# EAGLE library part ADS7947SRTER_ADS7947SRTER (library spectrometer_mother_board_v1)
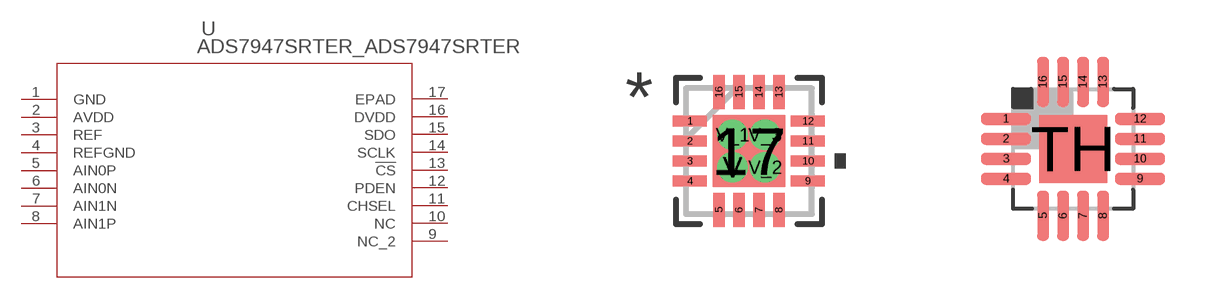
[diagram p1: symbol with the pads of ADS7947SRTER_RTE16_1P7X1P7; footprints ADS7947SRTER_RTE16_1P7X1P7, QFN16-EXTENDEDPADS]

Designator prefix U

## ADS7947SRTER_ADS7947SRTER (DATASHEET_URL: http://www.ti.com/lit/gpn/ADS7947; DESCRIPTION: 12-Bit, 2 MSPS, Dual Channel, Pseudo-differential uPower Serial SAR ADC; FAMILY_NAME: PRECISION ADC (<=10MSPS); GENERIC_PART_NUMBER: ADS7947; INDUSTRY_STD_PKG_TYPE: WQFN; MANUFACTURER: Texas Instruments; PACKAGE_DESIGNATOR: RTE; PIN_COUNT: 16)  [ADS7947SRTER_RTE16_1P7X1P7]
1  GND  pwr
2  AVDD  pwr
3  REF  pwr
4  REFGND  pwr
5  AIN0P  in
6  AIN0N  in
7  AIN1N  in
8  AIN1P  in
9  NC_2  nc
10  NC  nc
11  CHSEL  in
12  PDEN  in
13  !CS  in
14  SCLK  in
15  SDO  out
16  DVDD  pwr
17  EPAD  pwr

## ADS7947SRTER_ADS7947SRTEREXTENDEDSOLDER  [QFN16-EXTENDEDPADS]
1  GND  pwr
2  AVDD  pwr
3  REF  pwr
4  REFGND  pwr
5  AIN0P  in
6  AIN0N  in
7  AIN1N  in
8  AIN1P  in
9  NC_2  nc
10  NC  nc
11  CHSEL  in
12  PDEN  in
13  !CS  in
14  SCLK  in
15  SDO  out
16  DVDD  pwr
TH  EPAD  pwr

## Footprint ADS7947SRTER_RTE16_1P7X1P7 (pad centres in mm)
smd 0.85 x 0.28: 1 -1.475,0.75; 2 -1.475,0.25; 3 -1.475,-0.25; 4 -1.475,-0.75; 9 1.475,-0.75; 10 1.475,-0.25; 11 1.475,0.25; 12 1.475,0.75
smd 0.28 x 0.85: 5 -0.75,-1.475; 6 -0.25,-1.475; 7 0.25,-1.475; 8 0.75,-1.475; 13 0.75,1.475; 14 0.25,1.475; 15 -0.25,1.475; 16 -0.75,1.475
smd 1.803 x 1.803: 17 0,0
drill 0.254 pad 0.508: V -0.406,-0.406; V_1 -0.406,0.406; V_2 0.406,-0.406; V_3 0.406,0.406

## Footprint QFN16-EXTENDEDPADS (pad centres in mm)
RTE (S-PQFP-N16) 3x3 mm Source: www.ti.com .. tpa6132a2 direct path stereo $.65.pdf
smd 1.25 x 0.3: 1 -1.675,0.75; 2 -1.675,0.25; 3 -1.675,-0.25; 4 -1.675,-0.75; 9 1.675,-0.75; 10 1.675,-0.25; 11 1.675,0.25; 12 1.675,0.75
smd 0.3 x 1.25: 5 -0.75,-1.675; 6 -0.25,-1.675; 7 0.25,-1.675; 8 0.75,-1.675; 13 0.75,1.675; 14 0.25,1.675; 15 -0.25,1.675; 16 -0.75,1.675
smd 1.7 x 1.7: TH 0,0